# EAGLE library part MPU6500 (library MrSwirlyEyes)
MPU 6500 6DOF IMU
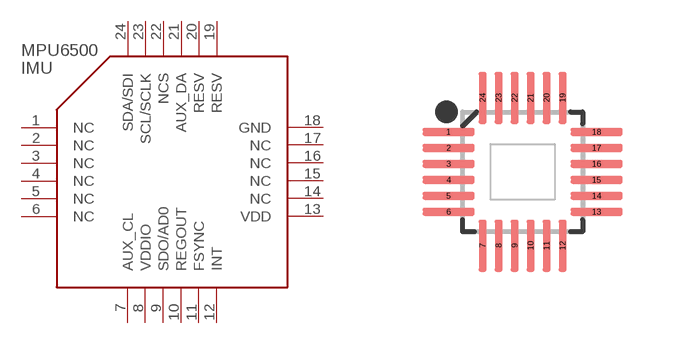
[diagram p19: symbol with the pads of MPU6500-QFN24; footprint MPU6500-QFN24]

Designator prefix IMU

## MPU6500-QFN24 (CREATOR: Kenmei; DATASHEET: https://www.invensense.com/wp-content/uploads/2015/02/MPU-6500-Datasheet2.pdf; DIST: Digikey; DISTLINK: https://www.digikey.com/product-detail/en/tdk-invensense/MPU-6500/1428-1011-6-ND/4385414; DISTPN: 1428-1011-6-ND; MFR: TDK InvenSense; MPN: MPU-6500; TESTED: NO)  [MPU6500-QFN24]
1  NC  nc
2  NC  nc
3  NC  nc
4  NC  nc
5  NC  nc
6  NC  nc
7  AUX_CL
8  VDDIO  pwr
9  SDO/AD0
10  REGOUT
11  FSYNC
12  INT
13  VDD  pwr
14  NC  nc
15  NC  nc
16  NC  nc
17  NC  nc
18  GND  pwr
19  RESV
20  RESV
21  AUX_DA
22  NCS
23  SCL/SCLK
24  SDA/SDI

## Footprint MPU6500-QFN24 (pad centres in mm)
smd 1.3 x 0.2: 1 -1.85,1; 2 -1.85,0.6; 3 -1.85,0.2; 4 -1.85,-0.2; 5 -1.85,-0.6; 6 -1.85,-1; 13 1.85,-1; 14 1.85,-0.6; 15 1.85,-0.2; 16 1.85,0.2; 17 1.85,0.6; 18 1.85,1
smd 0.2 x 1.3: 7 -1,-1.85; 8 -0.6,-1.85; 9 -0.2,-1.85; 10 0.2,-1.85; 11 0.6,-1.85; 12 1,-1.85; 19 1,1.85; 20 0.6,1.85; 21 0.2,1.85; 22 -0.2,1.85; 23 -0.6,1.85; 24 -1,1.85